# Altium footprint library 3225晶振.PcbLib: 1 footprints
Each footprint in its own frame and in the unit in brackets; x right, y up, seen from the top. Pads: shape width x height; smd on the part's side, far side on the other; paste and mask are expansions set on the pad; w line width, h text height; cw(c..) or ccw(c..) is an arc to the next point about the centre after c.
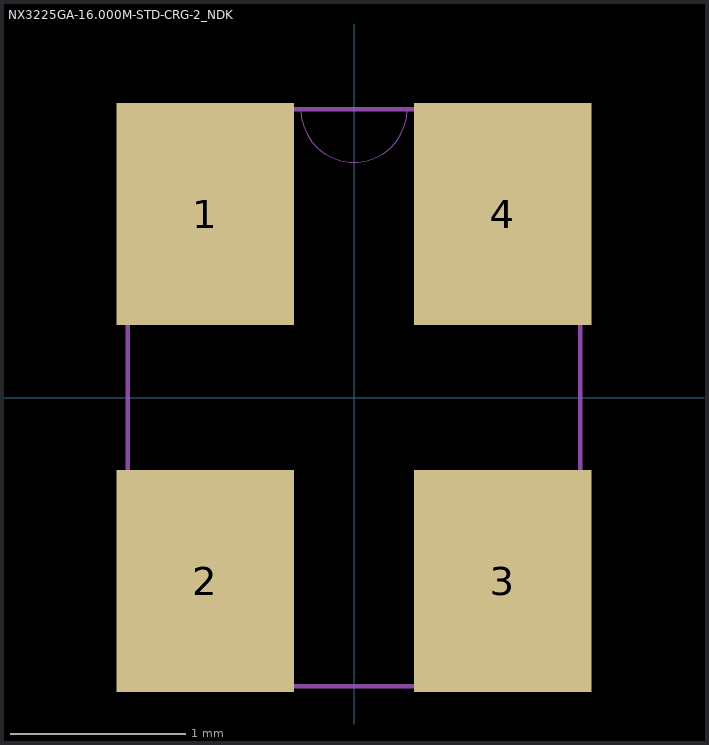
[diagram p0: the footprint, top view; thin cyan lines are the x and y axes]

## NX3225GA-16.000M-STD-CRG-2_NDK [mm]
pads (4):
  rect 1.016x1.27 smd paste-0.597 mask+0: 1(-0.85,1.05) 2(-0.85,-1.05) 3(0.85,-1.05) 4(0.85,1.05)
Mechanical 13:
  lines w0: -0.305,1.651 ccw(c0,1.651) 0.305,1.651
  lines w0.025: -1.295,-1.651 1.295,-1.651 1.295,1.651 -1.295,1.651 -1.295,-1.651
3D body "NX3225GA-26MHZ-TI.STEP": height 0.6, standoff 0, extent -1.25,-1.6 1.25,1.6